# EAGLE library part TDA8542 (library Audio-Power-amlifier)
2 ´ 1 W BTL audio amplifier
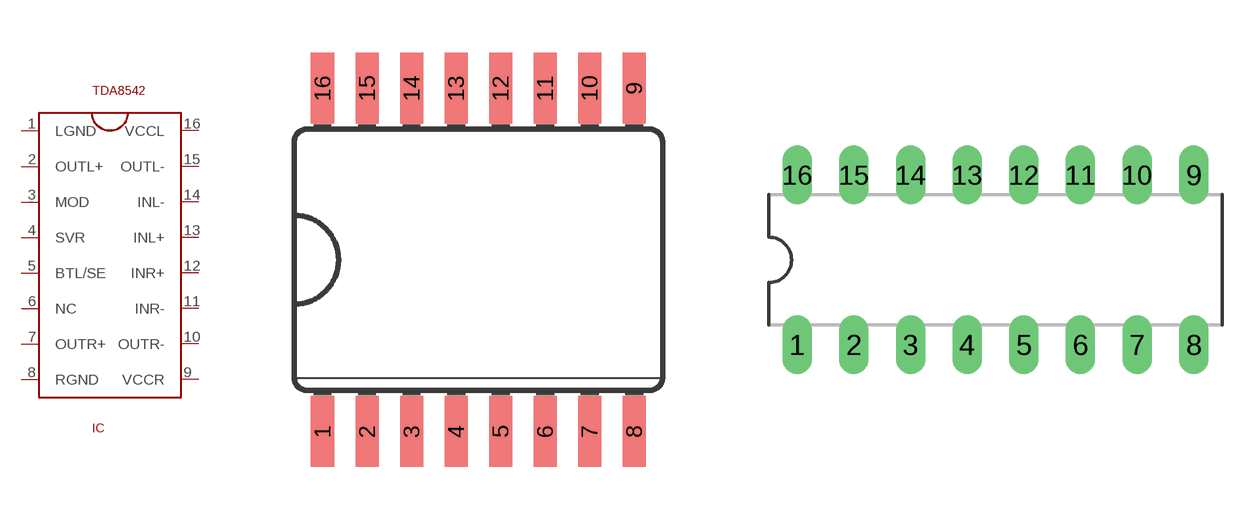
[diagram p37: symbol with the pads of SOT162-1; footprints SOT162-1, SOT38-1]

Designator prefix IC

## TDA8542  [SOT162-1]
1  LGND  pwr
2  OUTL+  out
3  MOD
4  SVR
5  BTL/SE
6  NC  nc
7  OUTR+  out
8  RGND  pwr
9  VCCR  pwr
10  OUTR-  out
11  INR-  in
12  INR+  in
13  INL+  in
14  INL-  in
15  OUTL-  out
16  VCCL  pwr

## TDA8542SOT38-1  [SOT38-1]
Pads as for SOT162-1

## Footprint SOT162-1 (pad centres in mm)
Small Outline Package
smd 0.66 x 2.032: 1 -4.445,-4.902; 2 -3.175,-4.902; 3 -1.905,-4.902; 4 -0.635,-4.902; 5 0.635,-4.902; 6 1.905,-4.902; 7 3.175,-4.902; 8 4.445,-4.902; 9 4.445,4.902; 10 3.175,4.902; 11 1.905,4.902; 12 0.635,4.902; 13 -0.635,4.902; 14 -1.905,4.902; 15 -3.175,4.902; 16 -4.445,4.902

## Footprint SOT38-1 (pad centres in mm)
Dual In Line Package
drill 0.813 long: 1 -8.89,-3.81; 2 -6.35,-3.81; 3 -3.81,-3.81; 4 -1.27,-3.81; 5 1.27,-3.81; 6 3.81,-3.81; 7 6.35,-3.81; 8 8.89,-3.81; 9 8.89,3.81; 10 6.35,3.81; 11 3.81,3.81; 12 1.27,3.81; 13 -1.27,3.81; 14 -3.81,3.81; 15 -6.35,3.81; 16 -8.89,3.81